# Altium footprint library Test Point.PcbLib: 6 footprints
Each footprint in its own frame and in the unit in brackets; x right, y up, seen from the top. Pads: shape width x height; smd on the part's side, far side on the other; paste and mask are expansions set on the pad; w line width, h text height; cw(c..) or ccw(c..) is an arc to the next point about the centre after c.
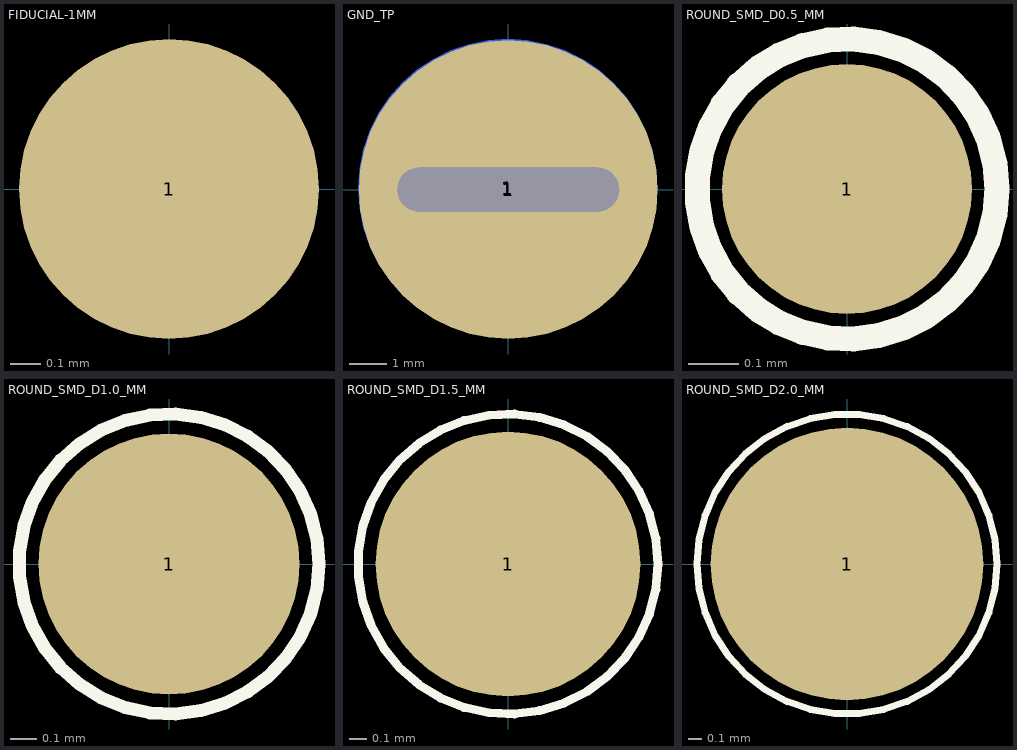
[diagram p0: the footprints below, top view; thin cyan lines are the x and y axes]

## FIDUCIAL-1MM [mm] "1MM FIDUCAL MARKER"
pads (1):
  round 1 smd paste+0 mask+0.5: 1(0,0)

## GND_TP [mm]
pads (3):
  round 8.09 smd far side: 1(-0.011,0.03)
  rrect50% 6.3x1.3 hole 1.2 slot 6 at 0 deg: 1(0,0)
  round 8.09 smd: 1(0,0)

## ROUND_SMD_D0.5_MM [mm]
pads (1):
  round 0.5 smd paste-100 mask+0.02: 1(0,0)
Top Overlay:
  circle w0.05: c0,0 r0.3

## ROUND_SMD_D1.0_MM [mm]
pads (1):
  round 1 smd paste-1000 mask+0.05: 1(0,0)
Top Overlay:
  circle w0.05: c0,0 r0.575

## ROUND_SMD_D1.5_MM [mm]
pads (1):
  round 1.5 smd paste-100 mask+0.05: 1(0,0)
Top Overlay:
  circle w0.05: c0,0 r0.85

## ROUND_SMD_D2.0_MM [mm]
pads (1):
  round 2 smd paste-100 mask+0.05: 1(0,0)
Top Overlay:
  circle w0.05: c0,0 r1.1